# EAGLE library part STELLARIS-LAUNCHPAD-COMPATIBLE-* (library ti)
Stellaris Launchpad LM4F120 using only pins connected to outer header rows to maintain compatibility with MSP430 booster packs.
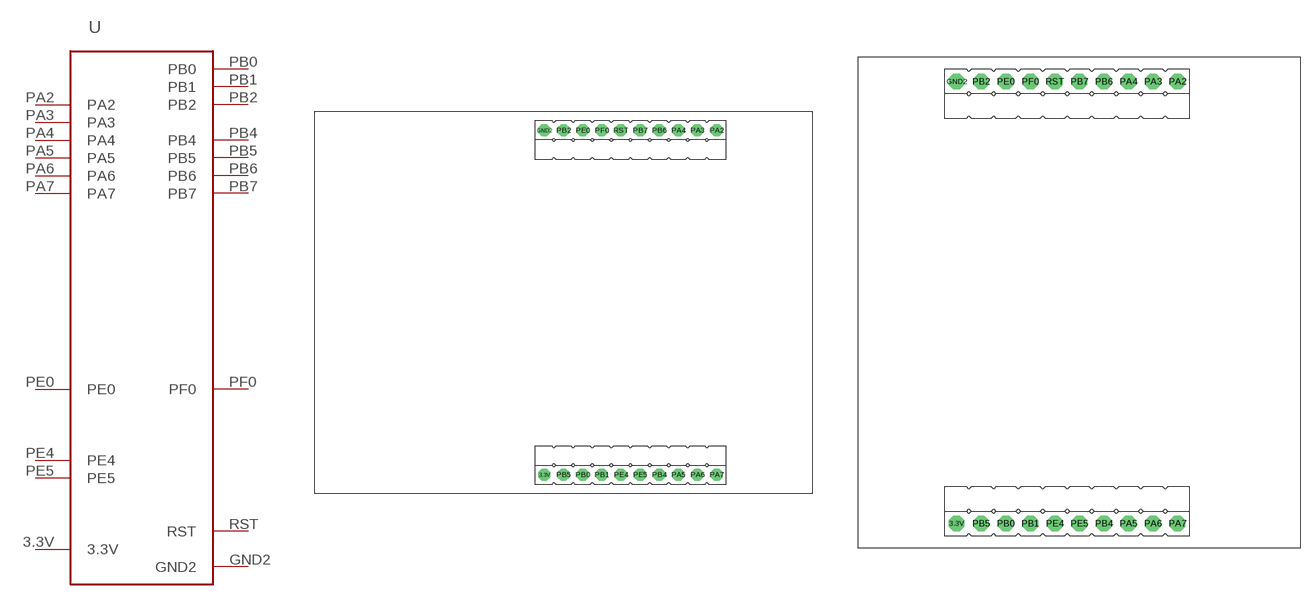
[diagram p4: symbol with the pads of LAUNCHPAD-M; footprints LAUNCHPAD-M, LAUNCHPAD-S]

Designator prefix -

## STELLARIS-LAUNCHPAD-COMPATIBLE-NORMAL  [LAUNCHPAD-M]
3.3V  3.3V  pwr
GND2  GND2  pwr
PA2  PA2
PA3  PA3
PA4  PA4
PA5  PA5
PA6  PA6
PA7  PA7
PB0  PB0
PB1  PB1
PB2  PB2
PB4  PB4
PB5  PB5
PB6  PB6
PB7  PB7
PE0  PE0
PE4  PE4
PE5  PE5
PF0  PF0
RST  RST  pwr

## STELLARIS-LAUNCHPAD-COMPATIBLE-HALF  [LAUNCHPAD-S]
Pads as for LAUNCHPAD-M

## Footprint LAUNCHPAD-M (pad centres in mm)
Stellaris Launchpad LM4F120 using only pins connected to outer header rows to maintain compatibility with MSP430 booster packs.
drill 0.914 pad 1.6 octagon: 3.3V 30.48,2.54; GND2 30.48,48.26; PA2 53.34,48.26; PA3 50.8,48.26; PA4 48.26,48.26; PA5 48.26,2.54; PA6 50.8,2.54; PA7 53.34,2.54; PB0 35.56,2.54; PB1 38.1,2.54; PB2 33.02,48.26; PB4 45.72,2.54; PB5 33.02,2.54; PB6 45.72,48.26; PB7 43.18,48.26; PE0 35.56,48.26; PE4 40.64,2.54; PE5 43.18,2.54; PF0 38.1,48.26; RST 40.64,48.26

## Footprint LAUNCHPAD-S (pad centres in mm)
Stellaris Launchpad LM4F120 using only pins connected to outer header rows to maintain compatibility with MSP430 booster packs.
drill 0.914 pad 1.6 octagon: 3.3V 10.16,2.54; GND2 10.16,48.26; PA2 33.02,48.26; PA3 30.48,48.26; PA4 27.94,48.26; PA5 27.94,2.54; PA6 30.48,2.54; PA7 33.02,2.54; PB0 15.24,2.54; PB1 17.78,2.54; PB2 12.7,48.26; PB4 25.4,2.54; PB5 12.7,2.54; PB6 25.4,48.26; PB7 22.86,48.26; PE0 15.24,48.26; PE4 20.32,2.54; PE5 22.86,2.54; PF0 17.78,48.26; RST 20.32,48.26